# Altium integrated library WD Communication Transceiver.IntLib: 6 symbols
Pins are listed as number, name and electrical type; pins without a type are passive.

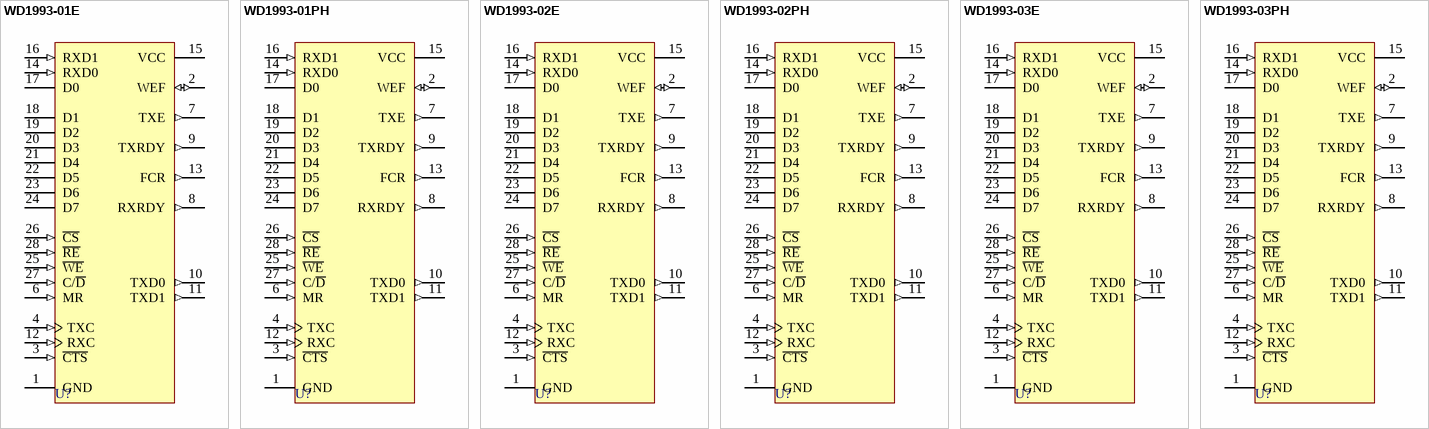
[diagram p0: symbols WD1993-01E to WD1993-03PH]

## WD1993-01E
designator U?
Arinc 429 Receiver/Transmitter; PackageDocument: 1984; Published: 8-Jun-2000; LatestRevisionDate: 4-Mar-2005; LatestRevisionNote: Stylized 3D Model Added.; DatasheetDocument: 1984; PackageReference: E28; Publisher: Altium Limited; ComponentLink1Description: Manufacturer Link; ComponentLink1URL: http://www.wdc.com/
footprint E28 (DIP; 28 Leads; Row Spacing 15.24 mm; Pitch 2.54 mm)
3D model E28 (DIP; 28 Leads; Row Spacing 15.24 mm; Pitch 2.54 mm)
pins: 1 GND (power), 2 WEF (io), 3 ~{CTS} (in), 4 TXC (in), 6 MR (in), 7 TXE (out), 8 RXRDY (out), 9 TXRDY (out), 10 TXD0 (out), 11 TXD1 (out), 12 RXC (in), 13 FCR (out), 14 RXD0 (in), 15 VCC (power), 16 RXD1 (in), 17 D0 (hiz), 18 D1 (hiz), 19 D2 (hiz), 20 D3 (hiz), 21 D4 (hiz), 22 D5 (hiz), 23 D6 (hiz), 24 D7 (hiz), 25 ~{WE} (in), 26 ~{CS} (in), 27 C/~{D} (in), 28 ~{RE} (in)

## WD1993-01PH
designator U?
Arinc 429 Receiver/Transmitter; PackageDocument: 1984; Published: 8-Jun-2000; LatestRevisionDate: 4-Mar-2005; LatestRevisionNote: Stylized 3D Model Added.; DatasheetDocument: 1984; PackageReference: PH28; Publisher: Altium Limited; ComponentLink1Description: Manufacturer Link; ComponentLink1URL: http://www.wdc.com/
footprint PH28 (DIP; 28 Leads; Row Spacing 15.24 mm; Pitch 2.54 mm)
3D model PH28 (DIP; 28 Leads; Row Spacing 15.24 mm; Pitch 2.54 mm)
pins: 1 GND (power), 2 WEF (io), 3 ~{CTS} (in), 4 TXC (in), 6 MR (in), 7 TXE (out), 8 RXRDY (out), 9 TXRDY (out), 10 TXD0 (out), 11 TXD1 (out), 12 RXC (in), 13 FCR (out), 14 RXD0 (in), 15 VCC (power), 16 RXD1 (in), 17 D0 (hiz), 18 D1 (hiz), 19 D2 (hiz), 20 D3 (hiz), 21 D4 (hiz), 22 D5 (hiz), 23 D6 (hiz), 24 D7 (hiz), 25 ~{WE} (in), 26 ~{CS} (in), 27 C/~{D} (in), 28 ~{RE} (in)

## WD1993-02E
designator U?
Arinc 429 Receiver/Transmitter; PackageDocument: 1984; Published: 8-Jun-2000; LatestRevisionDate: 4-Mar-2005; LatestRevisionNote: Stylized 3D Model Added.; DatasheetDocument: 1984; PackageReference: E28; Publisher: Altium Limited; ComponentLink1Description: Manufacturer Link; ComponentLink1URL: http://www.wdc.com/
footprint E28 (DIP; 28 Leads; Row Spacing 15.24 mm; Pitch 2.54 mm)
3D model E28 (DIP; 28 Leads; Row Spacing 15.24 mm; Pitch 2.54 mm)
pins: 1 GND (power), 2 WEF (io), 3 ~{CTS} (in), 4 TXC (in), 6 MR (in), 7 TXE (out), 8 RXRDY (out), 9 TXRDY (out), 10 TXD0 (out), 11 TXD1 (out), 12 RXC (in), 13 FCR (out), 14 RXD0 (in), 15 VCC (power), 16 RXD1 (in), 17 D0 (hiz), 18 D1 (hiz), 19 D2 (hiz), 20 D3 (hiz), 21 D4 (hiz), 22 D5 (hiz), 23 D6 (hiz), 24 D7 (hiz), 25 ~{WE} (in), 26 ~{CS} (in), 27 C/~{D} (in), 28 ~{RE} (in)

## WD1993-02PH
designator U?
Arinc 429 Receiver/Transmitter; PackageDocument: 1984; Published: 8-Jun-2000; LatestRevisionDate: 4-Mar-2005; LatestRevisionNote: Stylized 3D Model Added.; DatasheetDocument: 1984; PackageReference: PH28; Publisher: Altium Limited; ComponentLink1Description: Manufacturer Link; ComponentLink1URL: http://www.wdc.com/
footprint PH28 (DIP; 28 Leads; Row Spacing 15.24 mm; Pitch 2.54 mm)
3D model PH28 (DIP; 28 Leads; Row Spacing 15.24 mm; Pitch 2.54 mm)
pins: 1 GND (power), 2 WEF (io), 3 ~{CTS} (in), 4 TXC (in), 6 MR (in), 7 TXE (out), 8 RXRDY (out), 9 TXRDY (out), 10 TXD0 (out), 11 TXD1 (out), 12 RXC (in), 13 FCR (out), 14 RXD0 (in), 15 VCC (power), 16 RXD1 (in), 17 D0 (hiz), 18 D1 (hiz), 19 D2 (hiz), 20 D3 (hiz), 21 D4 (hiz), 22 D5 (hiz), 23 D6 (hiz), 24 D7 (hiz), 25 ~{WE} (in), 26 ~{CS} (in), 27 C/~{D} (in), 28 ~{RE} (in)

## WD1993-03E
designator U?
Arinc 429 Receiver/Transmitter; PackageDocument: 1984; Published: 8-Jun-2000; LatestRevisionDate: 4-Mar-2005; LatestRevisionNote: Stylized 3D Model Added.; DatasheetDocument: 1984; PackageReference: E28; Publisher: Altium Limited; ComponentLink1Description: Manufacturer Link; ComponentLink1URL: http://www.wdc.com/
footprint E28 (DIP; 28 Leads; Row Spacing 15.24 mm; Pitch 2.54 mm)
3D model E28 (DIP; 28 Leads; Row Spacing 15.24 mm; Pitch 2.54 mm)
pins: 1 GND (power), 2 WEF (io), 3 ~{CTS} (in), 4 TXC (in), 6 MR (in), 7 TXE (out), 8 RXRDY (out), 9 TXRDY (out), 10 TXD0 (out), 11 TXD1 (out), 12 RXC (in), 13 FCR (out), 14 RXD0 (in), 15 VCC (power), 16 RXD1 (in), 17 D0 (hiz), 18 D1 (hiz), 19 D2 (hiz), 20 D3 (hiz), 21 D4 (hiz), 22 D5 (hiz), 23 D6 (hiz), 24 D7 (hiz), 25 ~{WE} (in), 26 ~{CS} (in), 27 C/~{D} (in), 28 ~{RE} (in)

## WD1993-03PH
designator U?
Arinc 429 Receiver/Transmitter; PackageDocument: 1984; Published: 8-Jun-2000; LatestRevisionDate: 4-Mar-2005; LatestRevisionNote: Stylized 3D Model Added.; DatasheetDocument: 1984; PackageReference: PH28; Publisher: Altium Limited; ComponentLink1Description: Manufacturer Link; ComponentLink1URL: http://www.wdc.com/
footprint PH28 (DIP; 28 Leads; Row Spacing 15.24 mm; Pitch 2.54 mm)
3D model PH28 (DIP; 28 Leads; Row Spacing 15.24 mm; Pitch 2.54 mm)
pins: 1 GND (power), 2 WEF (io), 3 ~{CTS} (in), 4 TXC (in), 6 MR (in), 7 TXE (out), 8 RXRDY (out), 9 TXRDY (out), 10 TXD0 (out), 11 TXD1 (out), 12 RXC (in), 13 FCR (out), 14 RXD0 (in), 15 VCC (power), 16 RXD1 (in), 17 D0 (hiz), 18 D1 (hiz), 19 D2 (hiz), 20 D3 (hiz), 21 D4 (hiz), 22 D5 (hiz), 23 D6 (hiz), 24 D7 (hiz), 25 ~{WE} (in), 26 ~{CS} (in), 27 C/~{D} (in), 28 ~{RE} (in)